# EAGLE library part MMA865X (library Freescale_Sensors_v2)
Xtrinsic MMA8652FC 3-Axis, 12-bit Digital Accelerometer 10-PIN DFN 2 mm x 2 mm x 1 mm CASE 2162
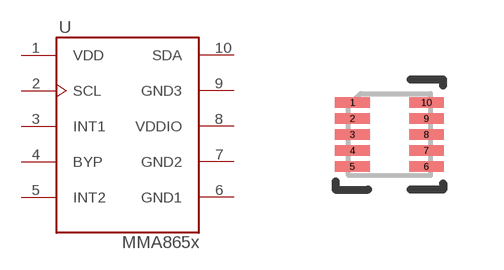
[diagram p1: symbol with the pads of DFN_10_0P4_2X2; footprint DFN_10_0P4_2X2]

Designator prefix -

## MMA865X  [DFN_10_0P4_2X2]
1  VDD  pwr
2  SCL  in
3  INT1  out
4  BYP  pas
5  INT2  out
6  GND1  pwr
7  GND2  pwr
8  VDDIO  pwr
9  GND3  pwr
10  SDA

## Footprint DFN_10_0P4_2X2 (pad centres in mm)
smd 0.864 x 0.254: 1 -0.925,0.8; 2 -0.925,0.4; 3 -0.925,0; 4 -0.925,-0.4; 5 -0.925,-0.8; 6 0.925,-0.8; 7 0.925,-0.4; 8 0.925,0; 9 0.925,0.4; 10 0.925,0.8